# Altium schematic symbol library YZ209315103P-01.SchLib: 1 symbol
Pins are listed as number, name and electrical type; pins without a type are passive.

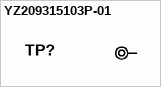
[diagram p0: symbol YZ209315103P-01]

## YZ209315103P-01
designator TP?
Brass 12V -40℃~+85℃ 1P Spring loaded pin (POGO PIN) 10.3mm 50mΩ 10,000 times 7mm 2A Gold Pogo Pin Spring Probe Connector ROHS
pins: 1